# EAGLE library part CONN (library TachoLaser)
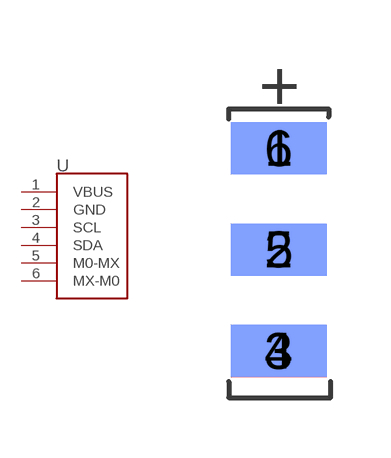
[diagram p0: symbol with the pads of CON6; footprint CON6]

Designator prefix -

## CONN  [CON6]
1  VBUS
2  GND
3  SCL
4  SDA
5  M0-MX
6  MX-M0

## Footprint CON6 (pad centres in mm)
smd 2.4 x 1.3: 1 0,2.54; 2 0,0; 3 0,-2.54
smd 2.4 x 1.3 bottom: 4 0,-2.53; 5 0,0; 6 0,2.53